# EAGLE library part 40_PIN_MOLEX_FFC (library johnmamish-molex)
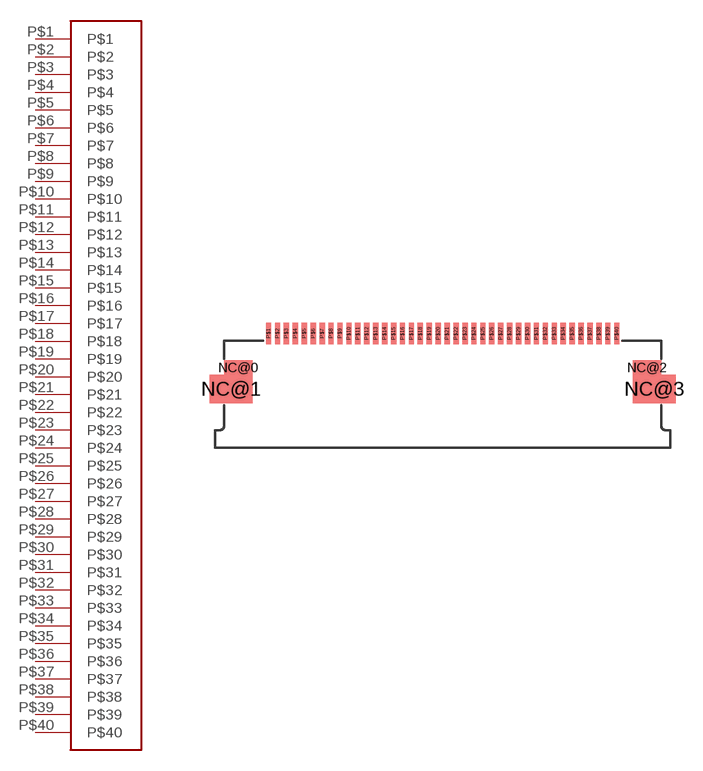
[diagram p0: symbol with the pads of 40_PIN_MOLEX_FFC; footprint 40_PIN_MOLEX_FFC]

Designator prefix -

## 40_PIN_MOLEX_FFC  [40_PIN_MOLEX_FFC]
P$1  P$1
P$2  P$2
P$3  P$3
P$4  P$4
P$5  P$5
P$6  P$6
P$7  P$7
P$8  P$8
P$9  P$9
P$10  P$10
P$11  P$11
P$12  P$12
P$13  P$13
P$14  P$14
P$15  P$15
P$16  P$16
P$17  P$17
P$18  P$18
P$19  P$19
P$20  P$20
P$21  P$21
P$22  P$22
P$23  P$23
P$24  P$24
P$25  P$25
P$26  P$26
P$27  P$27
P$28  P$28
P$29  P$29
P$30  P$30
P$31  P$31
P$32  P$32
P$33  P$33
P$34  P$34
P$35  P$35
P$36  P$36
P$37  P$37
P$38  P$38
P$39  P$39
P$40  P$40

## Footprint 40_PIN_MOLEX_FFC (pad centres in mm)
smd 1.6 x 0.8: NC@0 -1.7,-1.9; NC@2 21.2,-1.9
smd 2.4 x 1.6: NC@1 -2.1,-3.1; NC@3 21.6,-3.1
smd 0.3 x 1.2: P$1 0,0; P$2 0.5,0; P$3 1,0; P$4 1.5,0; P$5 2,0; P$6 2.5,0; P$7 3,0; P$8 3.5,0; P$9 4,0; P$10 4.5,0; P$11 5,0; P$12 5.5,0; P$13 6,0; P$14 6.5,0; P$15 7,0; P$16 7.5,0; P$17 8,0; P$18 8.5,0; P$19 9,0; P$20 9.5,0; P$21 10,0; P$22 10.5,0; P$23 11,0; P$24 11.5,0; P$25 12,0; P$26 12.5,0; P$27 13,0; P$28 13.5,0; P$29 14,0; P$30 14.5,0; P$31 15,0; P$32 15.5,0; P$33 16,0; P$34 16.5,0; P$35 17,0; P$36 17.5,0; P$37 18,0; P$38 18.5,0; P$39 19,0; P$40 19.5,0